# Altium schematic symbol library Passive.SchLib: 32 symbols
Pins are listed as number, name and electrical type; pins without a type are passive.

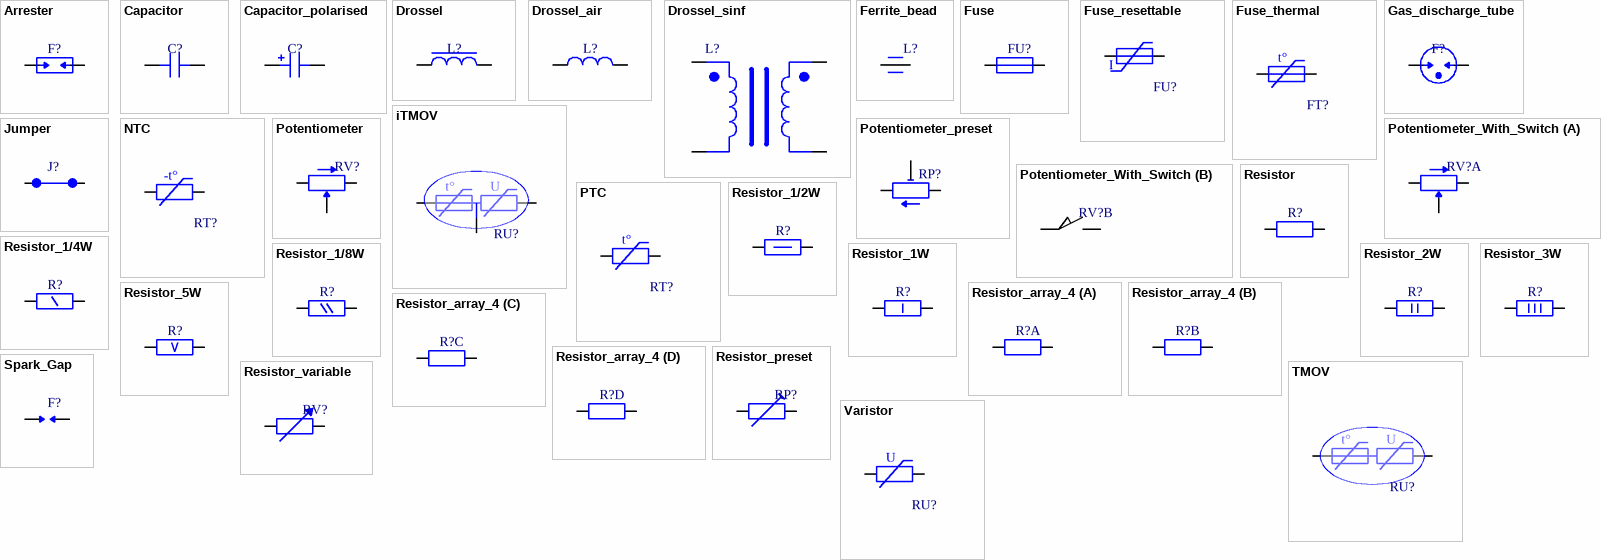
[diagram p0: symbols Arrester to Varistor]

## Arrester
designator F?
pins: 1, 2

## Capacitor
designator C?
pins: 1, 2

## Capacitor_polarised
designator C?
pins: +, -

## Drossel
designator L?
pins: 1, 2

## Drossel_air
designator L?
pins: 1, 2

## Drossel_sinf
designator L?
pins: 1, 2, 3, 4

## Ferrite_bead
designator L?
pins: 1, 2

## Fuse
designator FU?
pins: 1, 2

## Fuse_resettable
designator FU?
pins: 1, 2
text: I

## Fuse_thermal
designator FT?
pins: 1, 2
text: t°

## Gas_discharge_tube
designator F?
pins: 1, 2

## iTMOV
designator RU?
pins: 1, 2, 3
text: t°; U

## Jumper
designator J?
pins: 1, 2

## NTC
designator RT?
pins: 1, 2
text: -t°

## Potentiometer
designator RV?
pins: 1, 2, 3

## Potentiometer_preset
designator RP?
pins: 1, 2, 3

## Potentiometer_With_Switch
designator RV?
part A pins: 1, 2, 3
part B pins: S1, S2

## PTC
designator RT?
pins: 1, 2
text: t°

## Resistor
designator R?
pins: 1, 2

## Resistor_1/2W
designator R?
pins: 1, 2

## Resistor_1/4W
designator R?
pins: 1, 2

## Resistor_1/8W
designator R?
pins: 1, 2

## Resistor_1W
designator R?
pins: 1, 2

## Resistor_2W
designator R?
pins: 1, 2

## Resistor_3W
designator R?
pins: 1, 2

## Resistor_5W
designator R?
pins: 1, 2

## Resistor_array_4
designator R?
part A pins: A1, A2
part B pins: B1, B2
part C pins: C1, C2
part D pins: D1, D2

## Resistor_preset
designator RP?
pins: 1, 2

## Resistor_variable
designator RV?
pins: 1, 2

## Spark_Gap
designator F?
pins: 1, 2

## TMOV
designator RU?
pins: 1, 2
text: t°; U

## Varistor
designator RU?
pins: 1, 2
text: U